# Altium schematic symbol library Schlib1.SchLib: 44 symbols
Pins are listed as number, name and electrical type; pins without a type are passive.

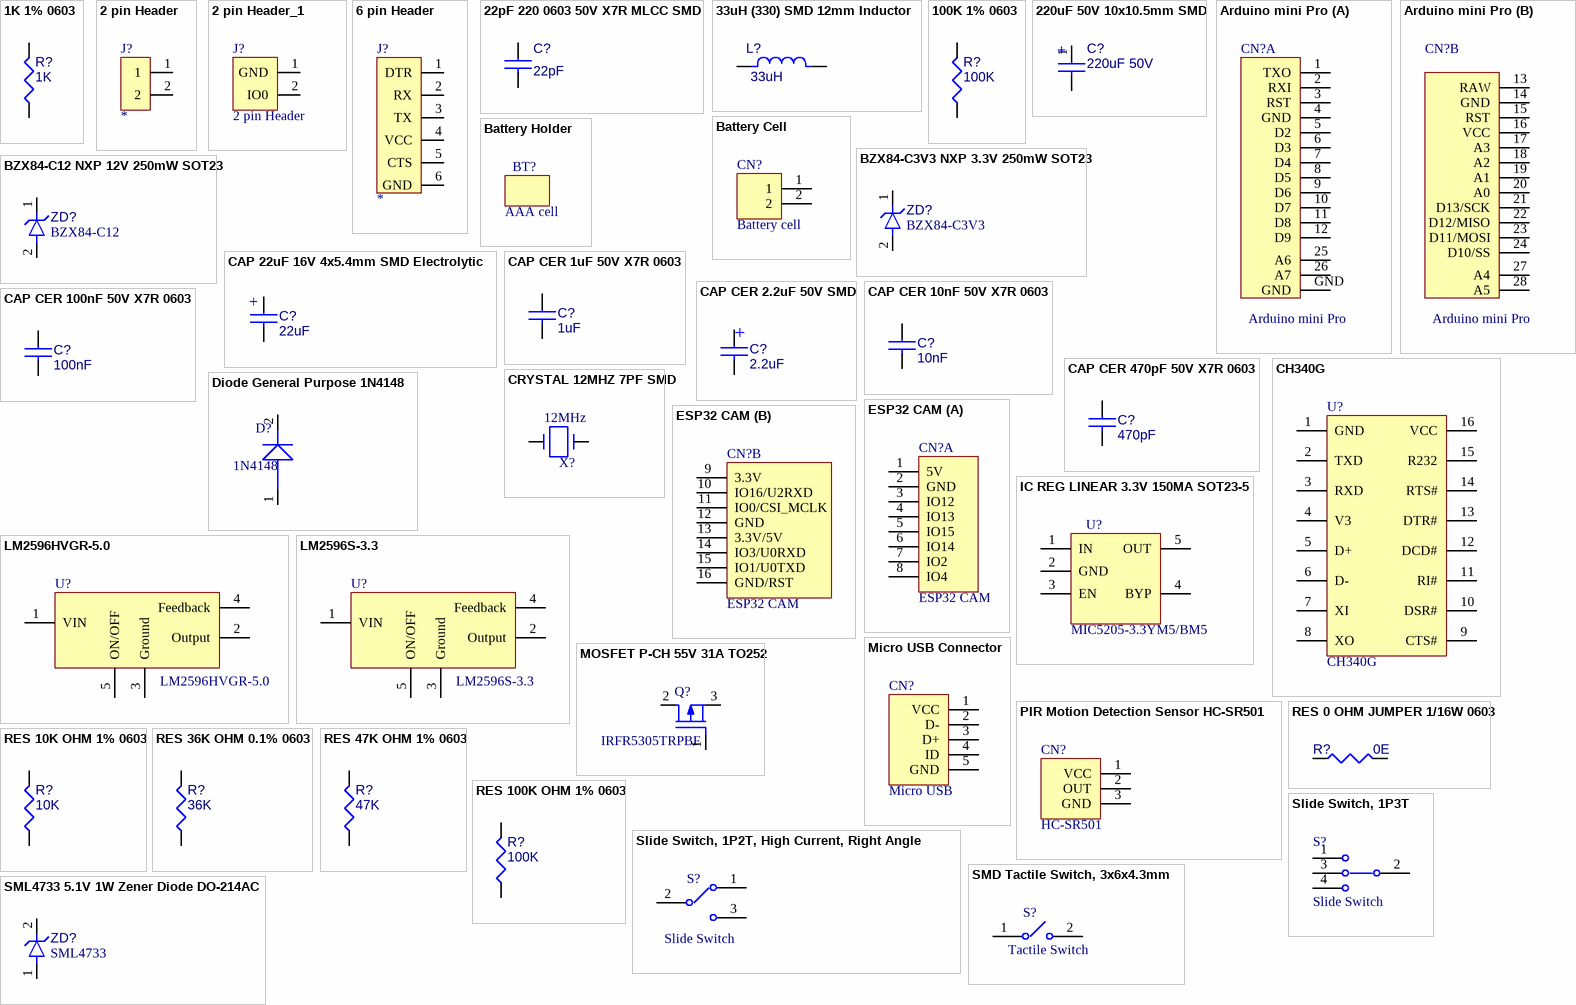
[diagram p0: symbols 1K 1% 0603 to SML4733 5.1V 1W Zener Diode DO-214AC]

## 1K 1% 0603
designator R?, comment 1K
100K 1% 0603; Sunrom P/N: 5191; Value: 1K
footprint RES_0603_MANUAL
pins: 1, 2

## 2 pin Header
designator J?
2 pin Header; Sunrom P/N: 7197
footprint 2Pin_Header_2.54mmpitch
pins: 1, 2

## 2 pin Header_1
designator J?, comment 2 pin Header
Sunrom P/N: 7197
footprint 2Pin_Header_2.54mmpitch
pins: 1 GND, 2 IO0

## 6 pin Header
designator J?
6 pin Header; Sunrom P/N: 7197
footprint 6Pin_Header_2.54mmpitch
pins: 1 DTR, 2 RX, 3 TX, 4 VCC, 5 CTS, 6 GND

## 22pF 220 0603 50V X7R MLCC SMD
designator C?, comment 22pF
22pF 220 0603 50V X7R MLCC SMD; Sunrom P/N: 5341; Value: 22pF 50V
footprint CAP_0603_MANUAL
pins: 1, 2

## 33uH (330) SMD 12mm Inductor
designator L?, comment 33uH
33uH (330) SMD 12mm Inductor; Sunrom P/N: 4446
footprint INDP125125X600N
pins: 1, 2

## 100K 1% 0603
designator R?, comment 100K
100K 1% 0603; Sunrom P/N: 5108; Value: 100K
footprint RES_0603_MANUAL
pins: 1, 2

## 220uF 50V 10x10.5mm SMD
designator C?, comment 220uF 50V
220uF 50V 10x10.5mm SMD Electrolytic Capacitor; Sunrom P/N: 3949
footprint CAP_220uF 50V
pins: 1, 2
text: +

## Arduino mini Pro
designator CN?
Pro Mini - ATMEGA 328P - 5V 16Mhz - Compatible Board; EC_P/N: 0923
part A pins: 1 TXO, 2 RXI, 3 RST, 4 GND, 5 D2, 6 D3, 7 D4, 8 D5, 9 D6, 10 D7, 11 D8, 12 D9, 25 A6, 26 A7, GND
part B pins: 13 RAW, 14 GND, 15 RST, 16 VCC, 17 A3, 18 A2, 19 A1, 20 A0, 21 D13/SCK, 22 D12/MISO, 23 D11/MOSI, 24 D10/SS, 27 A4, 28 A5

## Battery Cell
designator CN?, comment Battery cell
6x AAA cell; Robu P/N: 294162
pins: 1, 2

## Battery Holder
designator BT?, comment AAA cell  (mechanical)

## BZX84-C3V3 NXP 3.3V 250mW SOT23
designator ZD?, comment BZX84-C3V3
BZX84-C3V3 NXP 3.3V 250mW SOT23 Zener Diode; Sunrom P/N: 4430
pins: 1 C, 2 A

## BZX84-C12 NXP 12V 250mW SOT23
designator ZD?, comment BZX84-C12
BZX84-C12 NXP 12V 250mW SOT23 Zener Diode; Sunrom P/N: 5396
pins: 1 C, 2 A

## CAP 22uF 16V 4x5.4mm SMD Electrolytic
designator C?, comment 22uF
CAP 22uF 16V 4x5.4mm SMD Electrolytic; Sunrom P/N: 6995; Value: 22uF; Manufacturer1: *; Manufacturer1_P/N: *
pins: 1, 2
text: +

## CAP CER 1uF 50V X7R 0603
designator C?, comment 1uF
1uF 105 0603 (1608 metric) 50V X7R MLCC SMD; Value: 100nF; Sunrom P/N: 6796; Manufacturer1: *; Manufacturer1_P/N: *
pins: 1, 2

## CAP CER 2.2uF 50V SMD
designator C?, comment 2.2uF
2.2uF 50V 4x5.4mm SMD Electrolytic; Sunrom P/N: 6988; Value: 2.2uF; Manufacturer1: *; Manufacturer1_P/N: *
pins: 1, 2
text: +

## CAP CER 10nF 50V X7R 0603
designator C?, comment 10nF
10nF 103 0603 (1608 metric) 50V X7R MLCC SMD; Value: 100nF; Sunrom P/N: 5295; Manufacturer1: *; Manufacturer1_P/N: *
pins: 1, 2

## CAP CER 100nF 50V X7R 0603
designator C?, comment 100nF
100nF 104 0603 (1608 metric) 50V X7R MLCC; Sunrom P/N: 5190; Value: 100nF; Manufacturer1: *; Manufacturer1_P/N: *
pins: 1, 2

## CAP CER 470pF 50V X7R 0603
designator C?, comment 470pF
470pF 471 0603 (1608 metric) 50V X7R MLCC SMD; Sunrom P/N: 6795; Value: 470pF; Manufacturer1: *; Manufacturer1_P/N: *
pins: 1, 2

## CH340G
designator U?
CH340G SOIC16 USB to Serial TTL UART IC; Sunrom P/N: 4511
pins: 1 GND, 2 TXD, 3 RXD, 4 V3, 5 D+, 6 D-, 7 XI, 8 XO, 9 CTS#, 10 DSR#, 11 RI#, 12 DCD#, 13 DTR#, 14 RTS#, 15 R232, 16 VCC

## CRYSTAL 12MHZ 7PF SMD
designator X?, comment 12MHz
12 Mhz Crystal HC-49US 2Pin DIP Through-Hole Half Size; Sunrom P/N: 3996
pins: 1, 2

## Diode General Purpose 1N4148
designator D?, comment 1N4148
1A Single 5μA@1kV 1kV 1.1V@1A SMA(DO-214AC)  Diodes - General Purpose ROHS; Sunrom P/N: 6186; Manufacturer1: *; Manufacturer1_P/N: *
pins: 1 Anode, 2 cathode

## ESP32 CAM
designator CN?
ESP32 S-CAM-CH340 Development Test Board WiFi+ Bluetooth Module ESP32 Serial Port with OV2640 Camera; EC P/N: EC-4974
part A pins: 1 5V, 2 GND, 3 IO12, 4 IO13, 5 IO15, 6 IO14, 7 IO2, 8 IO4
part B pins: 9 3.3V, 10 IO16/U2RXD, 11 IO0/CSI_MCLK, 12 GND, 13 3.3V/5V, 14 IO3/U0RXD, 15 IO1/U0TXD, 16 GND/RST

## IC REG LINEAR 3.3V 150MA SOT23-5
designator U?, comment MIC5205-3.3YM5/BM5
Linear Voltage Regulator IC 1 Output 150mA SOT-23-5; Sunrom P/N: 5570
pins: 1 IN, 2 GND, 3 EN, 4 BYP, 5 OUT

## LM2596HVGR-5.0
designator U?
LM2596HVGR-5.0 TO263 HTC 5V@3A 150kHz Max 60V In Step-down Switching Regulator; Sunrom P/N: 4687
pins: 1 VIN, 2 Output, 3 Ground, 4 Feedback, 5 ON/OFF

## LM2596S-3.3
designator U?
LM2596-3.3 is a 3A Switching voltage regulator in TO-263-5 package; Sunrom P/N: 4686
pins: 1 VIN, 2 Output, 3 Ground, 4 Feedback, 5 ON/OFF

## Micro USB Connector
designator CN?, comment Micro USB
MicroUSB Connector with through hole; Sunrom P/N: 4653
pins: 1 VCC, 2 D-, 3 D+, 4 ID, 5 GND

## MOSFET P-CH 55V 31A TO252
designator Q?, comment IRFR5305TRPBF
IRFR5305TRPBF (31A 55V) IRFR5305 TO252 P-CH MOSFET; Manufacturer: Infineon Technologies; Sunrom P/N: 6680; Manufacturer_P/N: IRFR5305TRPBF
pins: 1 GATE, 2 DRAIN, 3 SOURCE

## PIR Motion Detection Sensor HC-SR501
designator CN?, comment HC-SR501
PIR Motion Detection Sensor HC-SR501; Sunrom P/N: 4176
pins: 1 VCC, 2 OUT, 3 GND

## RES 0 OHM JUMPER 1/16W 0603
designator R?, comment 0E
0R 0603 - SMD Jumper; Sunrom P/N: 6389; Value: 0E
pins: 1, 2

## RES 10K OHM 1% 0603
designator R?, comment 10K
47K 1% 0603; Sunrom P/N: 5192; Value: 10K
pins: 1, 2

## RES 36K OHM 0.1% 0603
designator R?, comment 36K
36K 1% 0603; Sunrom P/N: 4702; Value: 36K
pins: 1, 2

## RES 47K OHM 1% 0603
designator R?, comment 47K
47K 1% 0603; Sunrom P/N: 6636; Value: 47K
pins: 1, 2

## RES 100K OHM 1% 0603
designator R?, comment 100K
100K 1% 0603; Sunrom P/N: 5108; Value: 100K
pins: 1, 2

## Slide Switch, 1P2T, High Current, Right Angle
designator S?, comment Slide Switch
Slide Switch - 8.6mm - Vertical 1P2T; Sunrom P/N: 5256
pins: 1 NC, 2 COMM, 3 NO

## Slide Switch, 1P3T
designator S?, comment Slide Switch
Slide Switch Horizontal 4P 1P3T; Sunrom P/N: 5856
pins: 1 NC, 2 COMM, 3 NO, 4 NC

## SMD Tactile Switch, 3x6x4.3mm
designator S?, comment Tactile Switch
SMD Tactile Switch, 3x6x4.3mm; Sunrom P/N: 4917
pins: 1 COMM, 2 NC

## SML4733 5.1V 1W Zener Diode DO-214AC
designator ZD?, comment SML4733
SML4733 5.1V 1W Zener Diode DO-214AC (SMA) SMD; Sunrom P/N: 5396
footprint DO-214AC_SMA
pins: 1 A, 2 C

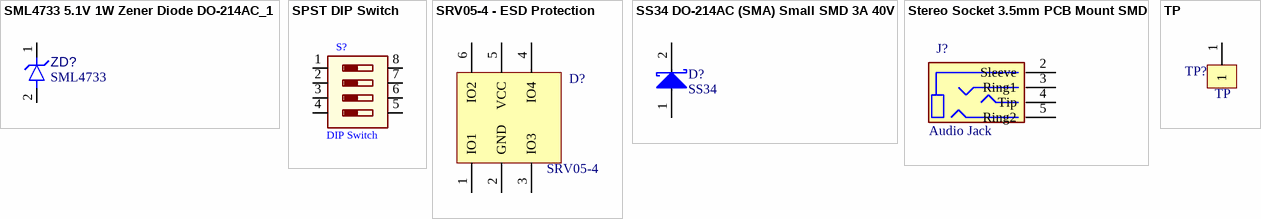
[diagram p1: symbols SML4733 5.1V 1W Zener Diode DO-214AC_1 to TP]

## SML4733 5.1V 1W Zener Diode DO-214AC_1
designator ZD?, comment SML4733
SML4733 5.1V 1W Zener Diode DO-214AC (SMA) SMD; Sunrom P/N: 5396
footprint DO-214AC_SMA
pins: 1 C, 2 A

## SPST DIP Switch
designator S?, comment DIP Switch
4 Way 2.54MM DIP switch; Sunrom P/N: 5841
pins: 1, 2, 3, 4, 5, 6, 7, 8

## SRV05-4 - ESD Protection
designator D?, comment SRV05-4
ESD/EFT protection, TVS Diode Array for USB & High speed data lines, Unidirectional TVS 4 channel 5V SOT23-6, Marking V05, Low Capacitance; Sunrom P/N: 4568
pins: 1 IO1, 2 GND, 3 IO3, 4 IO4, 5 VCC, 6 IO2

## SS34 DO-214AC (SMA) Small SMD 3A 40V
designator D?, comment SS34
SS34 DO-214AC (SMA) Small SMD 3A 40V Schottky Diode; Sunrom P/N: 4447
pins: 1 A, 2 K

## Stereo Socket 3.5mm PCB Mount SMD
designator J?, comment Audio Jack
Stereo Socket 3.5mm PCB Mount SMD; Sunrom P/N: 5543
pins: 2 Sleeve, 3 Ring1, 4 Tip, 5 Ring2

## TP
designator TP?
pins: 1